# Altium schematic symbol library netTie_lib.SchLib: 1 symbol
Pins are listed as number, name and electrical type; pins without a type are passive.

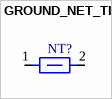
[diagram p0: symbol GROUND_NET_TIE]

## GROUND_NET_TIE
designator NT?  (value not drawn)  (net tie, no BOM)
footprint NET_TIE_GND
pins: 1, 2